# EAGLE library part RN4678 (library rn4678)
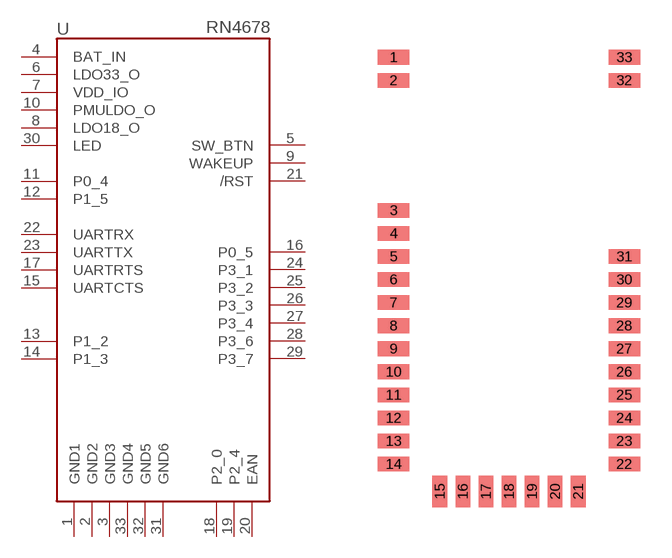
[diagram p0: symbol with the pads of RN4678; footprint RN4678]

Designator prefix -

## RN4678  [RN4678]
1  GND1
2  GND2
3  GND3
4  BAT_IN
5  SW_BTN
6  LDO33_O
7  VDD_IO
8  LDO18_O
9  WAKEUP
10  PMULDO_O
11  P0_4
12  P1_5
13  P1_2
14  P1_3
15  UARTCTS
16  P0_5
17  UARTRTS
18  P2_0
19  P2_4
20  EAN
21  /RST
22  UARTRX
23  UARTTX
24  P3_1
25  P3_2
26  P3_3
27  P3_4
28  P3_6
29  P3_7
30  LED
31  GND6
32  GND5
33  GND4

## Footprint RN4678 (pad centres in mm)
smd 1.5 x 0.7: 1 0.5,21.2; 2 0.5,20.1; 3 0.5,13.9; 4 0.5,12.8; 5 0.5,11.7; 6 0.5,10.6; 7 0.5,9.5; 8 0.5,8.4; 9 0.5,7.3; 10 0.5,6.2; 11 0.5,5.1; 12 0.5,4; 13 0.5,2.9; 14 0.5,1.8; 22 11.5,1.8; 23 11.5,2.9; 24 11.5,4; 25 11.5,5.1; 26 11.5,6.2; 27 11.5,7.3; 28 11.5,8.4; 29 11.5,9.5; 30 11.5,10.6; 31 11.5,11.7; 32 11.5,20.1; 33 11.5,21.2
smd 0.7 x 1.5: 15 2.7,0.5; 16 3.8,0.5; 17 4.9,0.5; 18 6,0.5; 19 7.1,0.5; 20 8.2,0.5; 21 9.3,0.5